# Altium footprint library Misc SMT.PcbLib: 40 footprints (part 3 of 3)
Each footprint in its own frame and in the unit in brackets; x right, y up, seen from the top. Pads: shape width x height; smd on the part's side, far side on the other; paste and mask are expansions set on the pad; w line width, h text height; cw(c..) or ccw(c..) is an arc to the next point about the centre after c.
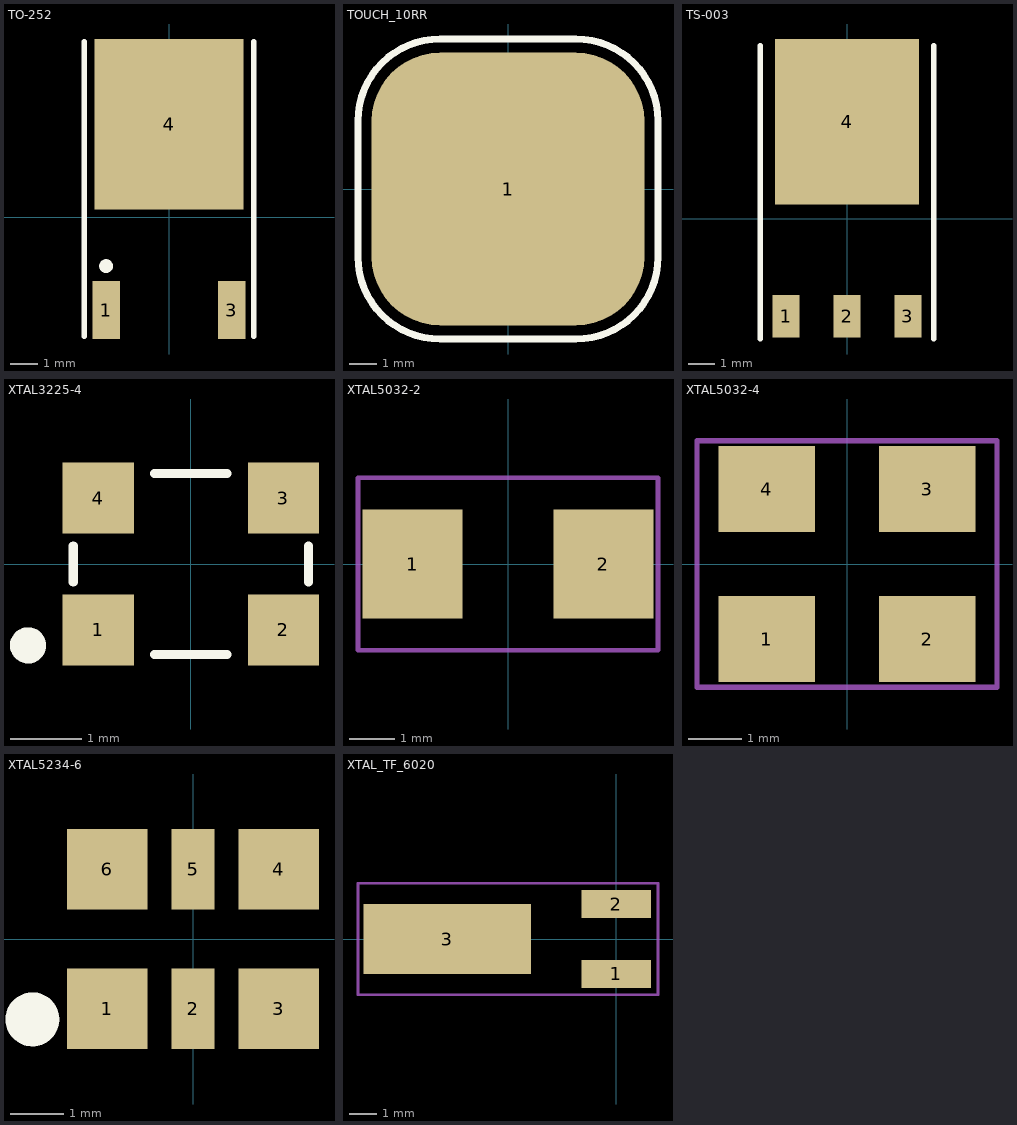
[diagram p2: the footprints below, top view; thin cyan lines are the x and y axes]

## TO-252 [mm] "D-PAK/TO-252-AA; 3 Leads (1 Cropped); Body 10.1 (inc. leads) x 6.6 mm (LxW max)"
height 2.4
pads (3):
  rect 1x2.1 smd: 1(-2.285,-3.375) 3(2.285,-3.375)
  rect 5.4x6.2 smd: 4(0,3.375)
Top Overlay:
  circle w0.25: c-2.285,-1.775 r0.125
  lines w0.2: -3.085,-4.325 -3.085,6.375 ; 3.085,-4.325 3.085,6.375
3D body: height 2.44, standoff 0.03, extent -3.27,-4.033 3.27,5.906

## TOUCH_10RR [mm]
pads (1):
  rrect50% 10x10 smd paste-20 mask-20: 1(0,0)
Top Overlay:
  lines w0.254: -5.5,-2.5 ccw(c-2.5,-2.5) -2.5,-5.5 2.5,-5.5 ccw(c2.5,-2.5) 5.5,-2.5 5.5,2.5 ccw(c2.5,2.5) 2.5,5.5 -2.5,5.5 ccw(c-2.5,2.5) -5.5,2.5 -5.5,-2.5

## TS-003 [mm] "D-PAK/TO-252-AA; 3 Leads (1 Cropped); Body 10.4 (inc. leads) x 6.7 mm (LxW max)"
height 2.38
pads (4):
  rect 1x1.6 smd: 1(-2.285,-3.65) 2(0,-3.65) 3(2.285,-3.65)
  rect 5.4x6.2 smd: 4(0,3.65)
Top Overlay:
  lines w0.2: -3.25,-4.5 -3.25,6.5 ; 3.25,-4.5 3.25,6.5

## XTAL3225-4 [mm]
pads (4):
  rect 1x1 smd: 1(-1.3,-0.925) 2(1.3,-0.925) 3(1.3,0.925) 4(-1.3,0.925)
Top Overlay:
  circle w0.254: c-2.286,-1.143 r0.127
  lines w0.127: -1.651,-0.254 -1.651,0.254 ; -0.508,-1.27 0.508,-1.27 ; -0.508,1.27 0.508,1.27 ; 1.651,-0.254 1.651,0.254
3D body: height 1.2, standoff 0, extent -1.6,-1.25 1.6,1.25

## XTAL5032-2 [mm] "SMD crystal, 5.0x3.2mm, 2 terminals"
height 1.3
pads (2):
  rect 2.2x2.4 smd paste-0.4: 1(-2.1,0) 2(2.1,0)
Mechanical 15:
  lines w0.1: -3.3,-1.9 -3.3,1.9 3.3,1.9 3.3,-1.9 -3.3,-1.9
3D body: height 1.3, standoff 0, extent -2.5,-1.6 2.5,1.6

## XTAL5032-4 [mm] "SMD crystal, 5.0x3.2mm, 4 terminals"
height 1.3
pads (4):
  rect 1.8x1.6 smd paste-0.3: 1(-1.5,-1.4) 2(1.5,-1.4) 3(1.5,1.4) 4(-1.5,1.4)
Mechanical 15:
  lines w0.1: -2.8,-2.3 -2.8,2.3 2.8,2.3 2.8,-2.3 -2.8,-2.3
3D body: height 0.9, standoff 0, extent -2.5,-1.6 2.5,1.6

## XTAL5234-6 [mm]
pads (6):
  rect 1.5x1.5 smd: 1(-1.6,-1.3) 3(1.6,-1.3) 4(1.6,1.3) 6(-1.6,1.3)
  rect 0.8x1.5 smd: 2(0,-1.3) 5(0,1.3)
Top Overlay:
  circle w0.508: c-3,-1.5 r0.25
3D body: height 1.4, standoff 0, extent -2.575,-1.675 2.575,1.675

## XTAL_TF_6020 [mm] "Tuning fork crystal, 6mm x 2mm"
height 2
pads (3):
  rect 2.5x1 smd: 1(0,-1.25) 2(0,1.25)
  rect 6x2.5 smd: 3(-6.05,0)
Mechanical 15:
  lines w0.1: -9.25,-2 -9.25,2 1.5,2 1.5,-2 -9.25,-2
3D body: height 2, standoff 0, extent -9.008,-1.002 -3.008,0.99